# Altium footprint library PCB_Lib.PcbLib: 286 footprints (part 11 of 18)
Each footprint in its own frame and in the unit in brackets; x right, y up, seen from the top. Pads: shape width x height; smd on the part's side, far side on the other; paste and mask are expansions set on the pad; w line width, h text height; cw(c..) or ccw(c..) is an arc to the next point about the centre after c.
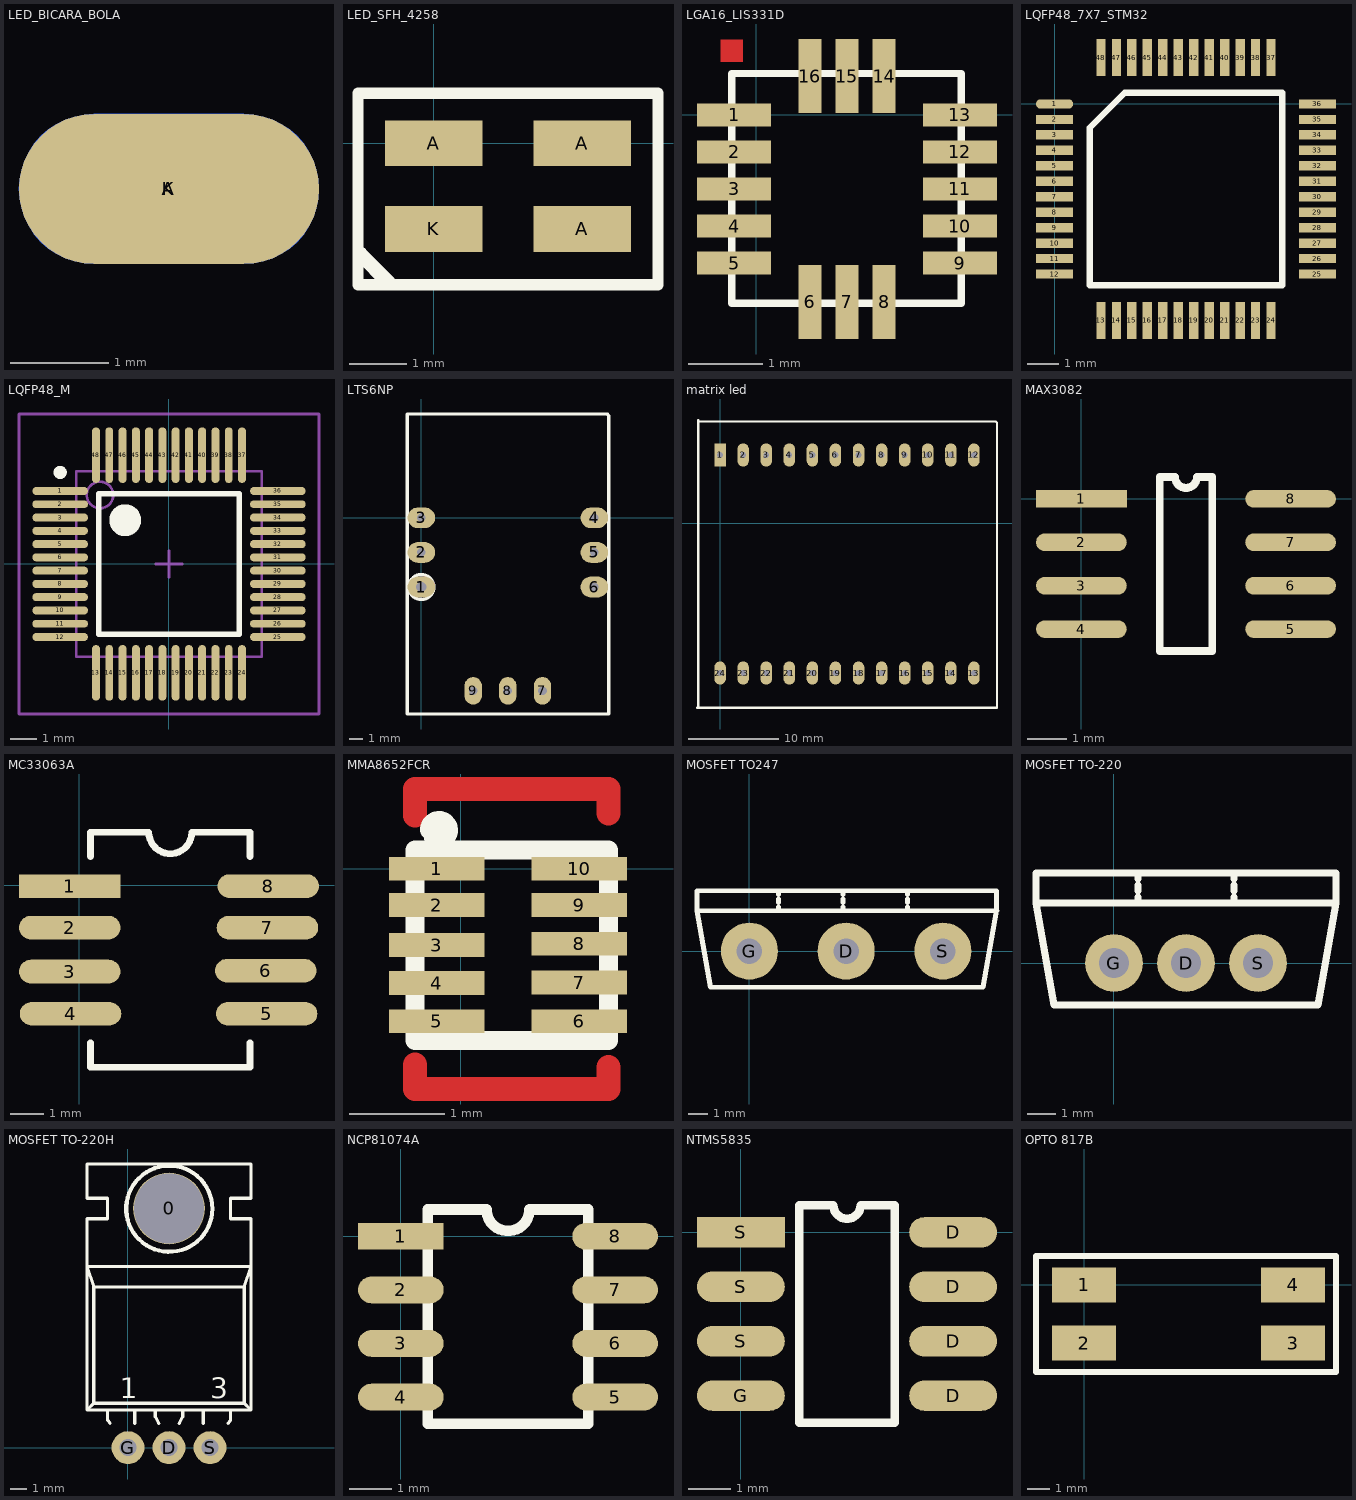
[diagram p10: the footprints below, top view; thin cyan lines are the x and y axes]

## LED_BICARA_BOLA [mil]
pads (2):
  oval 120x60 smd: A(-230.31,-76.77)
  oval 120x60 smd far side: K(-230.31,-76.77)

## LED_SFH_4258 [mm]
pads (4):
  rect 1.7x0.8 smd: A(0,0) A(2.6,-1.5) A(2.6,0) K(0,-1.5)
Top Overlay:
  lines w0.2: -1.325,-2.475 3.925,-2.475 3.925,0.875 -1.325,0.875 -1.325,-2.475
  lines w0.254: -1.288,-1.937 -0.788,-2.437

## LGA16_LIS331D [mm]
pads (16):
  rect 1x0.31 smd: 1(-0.3,0) 2(-0.3,-0.5) 3(-0.3,-1) 4(-0.3,-1.5) 5(-0.3,-2) 9(2.75,-2) 10(2.75,-1.5) 11(2.75,-1) 12(2.75,-0.5) 13(2.75,0)
  rect 0.31x1 smd: 6(0.725,-2.525) 7(1.225,-2.525) 8(1.725,-2.525) 14(1.725,0.525) 15(1.225,0.525) 16(0.725,0.525)
Top Layer:
  rectangle: -0.483,0.711 -0.178,1.016
Top Overlay:
  lines w0.1: -0.33,-2.54 2.769,-2.54 2.769,0.559 -0.33,0.559 -0.33,-2.54

## LQFP48_7X7_STM32 [mm]
pads (48):
  oval 1.2x0.3 smd: 1(0,0)
  rect 1.2x0.3 smd: 2(0,-0.5) 3(0,-1) 4(0,-1.5) 5(0,-2) 6(0,-2.5) 7(0,-3) 8(0,-3.5) 9(0,-4) 10(0,-4.5) 11(0,-5) 12(0,-5.5) 25(8.5,-5.5) 26(8.5,-5) 27(8.5,-4.5) 28(8.5,-4) 29(8.5,-3.5) 30(8.5,-3) 31(8.5,-2.5) 32(8.5,-2) 33(8.5,-1.5) 34(8.5,-1) 35(8.5,-0.5) 36(8.5,0)
  rect 0.3x1.2 smd: 13(1.5,-7) 14(2,-7) 15(2.5,-7) 16(3,-7) 17(3.5,-7) 18(4,-7) 19(4.5,-7) 20(5,-7) 21(5.5,-7) 22(6,-7) 23(6.5,-7) 24(7,-7) 37(7,1.5) 38(6.5,1.5) 39(6,1.5) 40(5.5,1.5) 41(5,1.5) 42(4.5,1.5) 43(4,1.5) 44(3.5,1.5) 45(3,1.5) 46(2.5,1.5) 47(2,1.5) 48(1.5,1.5)
Top Overlay:
  lines w0.2: 1.135,-5.865 7.365,-5.865 7.365,0.365 2.27,0.365 1.135,-0.77 1.135,-5.865

## LQFP48_M [mm] "Thin QFP, 48-Leads, Body 7x7mm, Pitch 0.5mm, IPC Low Density"
height 1.6
pads (48):
  oval 2.1x0.3 smd: 1(-4.1,2.75) 2(-4.1,2.25) 3(-4.1,1.75) 4(-4.1,1.25) 5(-4.1,0.75) 6(-4.1,0.25) 7(-4.1,-0.25) 8(-4.1,-0.75) 9(-4.1,-1.25) 10(-4.1,-1.75) 11(-4.1,-2.25) 12(-4.1,-2.75) 25(4.1,-2.75) 26(4.1,-2.25) 27(4.1,-1.75) 28(4.1,-1.25) 29(4.1,-0.75) 30(4.1,-0.25) 31(4.1,0.25) 32(4.1,0.75) 33(4.1,1.25) 34(4.1,1.75) 35(4.1,2.25) 36(4.1,2.75)
  oval 0.3x2.1 smd: 13(-2.75,-4.1) 14(-2.25,-4.1) 15(-1.75,-4.1) 16(-1.25,-4.1) 17(-0.75,-4.1) 18(-0.25,-4.1) 19(0.25,-4.1) 20(0.75,-4.1) 21(1.25,-4.1) 22(1.75,-4.1) 23(2.25,-4.1) 24(2.75,-4.1) 37(2.75,4.1) 38(2.25,4.1) 39(1.75,4.1) 40(1.25,4.1) 41(0.75,4.1) 42(0.25,4.1) 43(-0.25,4.1) 44(-0.75,4.1) 45(-1.25,4.1) 46(-1.75,4.1) 47(-2.25,4.1) 48(-2.75,4.1)
Top Overlay:
  circle w0.6: c-1.65,1.65 r0.3
  circle w0.25: c-4.1,3.45 r0.125
  lines w0.2: -2.65,-2.65 2.65,-2.65 2.65,2.65 -2.65,2.65 -2.65,-2.65
Mechanical 13:
  circle w0.1: c-2.6,2.6 r0.5
  lines w0.1: -3.5,-3.5 3.5,-3.5 3.5,3.5 -3.5,3.5 -3.5,-3.5
Mechanical 15:
  lines w0.1: -0.5,0 0.5,0 ; 0,-0.5 0,0.5 ; -5.65,-5.65 5.65,-5.65 5.65,5.65 -5.65,5.65 -5.65,-5.65
3D body: height 1.6, standoff 0, extent -3.5,-3.5 3.5,3.5

## LTS6NP [mil] "LEM current sensor"
pads (9):
  oval 80x60 hole 30: 1(0,-200)
  oval 80x60 hole 25: 2(0,-100) 3(0,0) 4(500,0) 5(500,-100) 6(500,-200)
  oval 50x80 hole 25: 7(350,-500) 8(250,-500) 9(150,-500)
Top Overlay:
  lines w10: 36,-200 cw(c-0.02,-200) 35.99,-199.14 ; -41,-567 -41,300 537,300 542,295 542,251 542,-567 -41,-567

## matrix led [mil]
pads (24):
  rect 50x100 hole 25: 1(0,295)
  oval 50x100 hole 25: 2(100,295) 3(200,295) 4(300,295) 5(400,295) 6(500,295) 7(600,295) 8(700,295) 9(800,295) 10(900,295) 11(1000,295) 12(1100,295) 13(1100,-650) 14(1000,-650) 15(900,-650) 16(800,-650) 17(700,-650) 18(600,-650) 19(500,-650) 20(400,-650) 21(300,-650) 22(200,-650) 23(100,-650) 24(0,-650)
Top Overlay:
  lines w10: -100,-800 1200,-800 1200,435 1195,440 -90,440 -95,445 -95,-795 -100,-800

## MAX3082 [mm]
pads (8):
  rect 2.3x0.45 smd: 1(0,0)
  oval 2.3x0.45 smd: 2(0,-1.1) 3(0,-2.2) 4(0,-3.3) 5(5.3,-3.3) 6(5.3,-2.2) 7(5.3,-1.1) 8(5.3,0)
Top Overlay:
  lines w0.2: 1.985,-3.85 1.985,0.55 2.375,0.55 ccw(c2.65,0.55) 2.925,0.55 3.315,0.55 3.315,-3.85 1.985,-3.85

## MC33063A [mm]
pads (8):
  rect 3x0.7 smd: 1(-0.275,-0.025)
  oval 3x0.7 smd: 2(-0.275,-1.25) 3(-0.275,-2.55) 4(-0.25,-3.8) 5(5.55,-3.8) 6(5.525,-2.525) 7(5.575,-1.25) 8(5.6,-0.025)
Top Overlay:
  lines w0.2: 0.34,-4.66 0.34,-5.38 5.06,-5.38 5.06,-4.66 ; 0.34,0.85 0.34,1.57 2.065,1.57 ccw(c2.7,1.57) 3.335,1.57 5.06,1.57 5.06,0.85

## MMA8652FCR [mm]
pads (10):
  rect 1x0.25 smd: 1(-0.254,0) 2(-0.254,-0.381) 3(-0.254,-0.8) 4(-0.254,-1.2) 5(-0.254,-1.6) 6(1.245,-1.6) 7(1.245,-1.194) 8(1.245,-0.787) 9(1.245,-0.381) 10(1.245,0)
Top Layer:
  lines w0.254: -0.483,-2.057 -0.483,-2.311 1.549,-2.311 1.549,-2.083 ; -0.483,0.559 -0.483,0.838 1.549,0.838 1.549,0.584
Top Overlay:
  lines w0.2: -0.33,0.406 cw(c-0.23,0.406) -0.289,0.326 ; 0.4,0.2 1.549,0.2 1.549,-1.8 -0.483,-1.8 -0.483,0.2 0.6,0.2

## MOSFET TO247 [mm]
pads (3):
  round 3 hole 1.33: D(5.08,0) G(0,0) S(10.16,0)
Top Overlay:
  lines w0.254: 1.525,2.117 1.525,2.328 ; 1.525,2.54 1.525,2.752 ; 1.525,2.963 1.525,3.175 ; 8.298,2.117 8.298,2.328 ; 8.298,2.54 8.298,2.752 ; 8.298,2.963 8.298,3.175 ; 12.975,2.142 12.975,3.175 -2.752,3.175 -2.752,2.117 ; 12.978,2.139 12.265,-1.9 -2.043,-1.9 -2.752,2.117 ; 13,2.117 -2.752,2.117 ; 4.912,2.117 4.912,2.328 4.912,2.117 ; 4.912,2.54 4.912,2.752 4.912,2.54 ; 4.912,2.963 4.912,3.175 4.912,2.963

## MOSFET TO-220 [mil]
pads (3):
  round 80 hole 42: D(100,0) G(0,0) S(200,0)
Top Overlay:
  lines w10: 33.33,83.33 33.33,91.67 ; 33.33,100 33.33,108.33 ; 33.33,116.67 33.33,125 ; 166.67,83.33 166.67,91.67 ; 166.67,100 166.67,108.33 ; 166.67,116.67 166.67,125 ; -108.33,83.33 -108.33,125 308.33,125 308.33,83.33 ; -108.33,83.33 -83.33,-58.33 283.33,-58.33 308.33,83.33 ; -108.33,83.33 308.33,83.33

## MOSFET TO-220H [mil]
pads (4):
  round 175 hole 170: 0(100,583.33)
  round 80 hole 42: D(100,0) G(0,0) S(200,0)
Top Overlay:
  circle w10: c100.67,582.53 r105
  lines w7.87: -50,66.67 -50,91.67 ; -48.11,65.41 -43.58,59.05 ; 16.67,59.05 16.67,91.67 ; 66.67,91.67 66.67,75 75,59.05 ; 125,59.05 133.33,75 133.33,91.67 ; 183.33,59.05 183.33,91.67 ; 243.9,59.05 250.31,67.61 ; 250,66.67 250,91.67 ; -100,91.67 -83.33,108.33 ; -100,91.67 300,91.67 ; -100,91.67 -100,558.33 -50,558.33 -50,608.33 -100,608.33 -100,691.67 300,691.67 300,608.33 250,608.33 250,558.33 300,558.33 300,91.67 ; -83.33,108.33 283.33,108.33 ; -83.33,108.33 -83.33,391.67 ; -83.33,391.67 283.33,391.67 ; -83.33,391.67 -100,441.67 300,441.67 283.33,391.67 ; 283.33,108.33 300,91.67 ; 283.33,108.33 283.33,391.67
  text "1" at -20,120 h50
  text "3" at 200,120 h50

## NCP81074A [mil] "Driver"
pads (8):
  rect 80x25 smd: 1(0,0)
  oval 80x25 smd: 2(0,-50) 3(0,-100) 4(0,-150) 5(200,-150) 6(200,-100) 7(200,-50) 8(200,0)
Top Overlay:
  lines w10: 25,-175 175,-175 175,25 120,25 cw(c100,25) 80,25 25,25 25,-175

## NTMS5835 [mm]
pads (8):
  oval 2.05x0.71 smd: D(4.95,-3.81) D(4.95,-2.54) D(4.95,-1.27) D(4.95,0) G(0,-3.81) S(0,-2.54) S(0,-1.27)
  rect 2.05x0.71 smd: S(0,0)
Top Overlay:
  lines w0.2: 1.36,-4.445 1.36,0.635 2.157,0.635 ccw(c2.475,0.635) 2.792,0.635 3.59,0.635 3.59,-4.445 1.36,-4.445

## OPTO 817B [mil]
pads (4):
  rect 110x60 smd: 1(0,0) 2(0,-100) 3(360,-100) 4(360,0)
Top Overlay:
  lines w10: -82.68,-150 434.06,-150 434.06,50 -82.68,50 -82.68,-150